# EAGLE library part TP4056MOD1 (library ytani1)
LiPoバッテリー充電コントローラ(TP4056) https://www.amazon.co.jp/dp/B073J66H62/
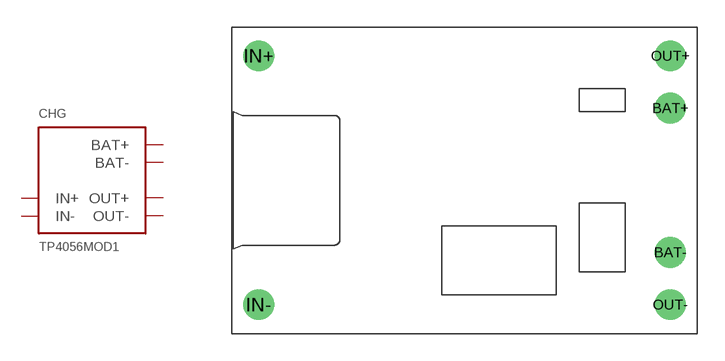
[diagram p7: symbol with the pads of TP4056MOD1; footprint TP4056MOD1]

Designator prefix CHG

## TP4056MOD1 (URL_AMAZON: https://www.amazon.co.jp/dp/B073J66H62/)  [TP4056MOD1]
BAT+  BAT+  pas
BAT-  BAT-  pas
IN+  IN+  pas
IN-  IN-  pas
OUT+  OUT+  pas
OUT-  OUT-  pas

## Footprint TP4056MOD1 (pad centres in mm)
drill 1 pad 1.7: BAT+ 11.4,4; BAT- 11.4,-4; IN+ -11.4,6.9; IN- -11.4,-6.9; OUT+ 11.4,6.9; OUT- 11.4,-6.9